# Altium schematic symbol library CAMERON.SchLib: 60 symbols
Pins are listed as number, name and electrical type; pins without a type are passive.

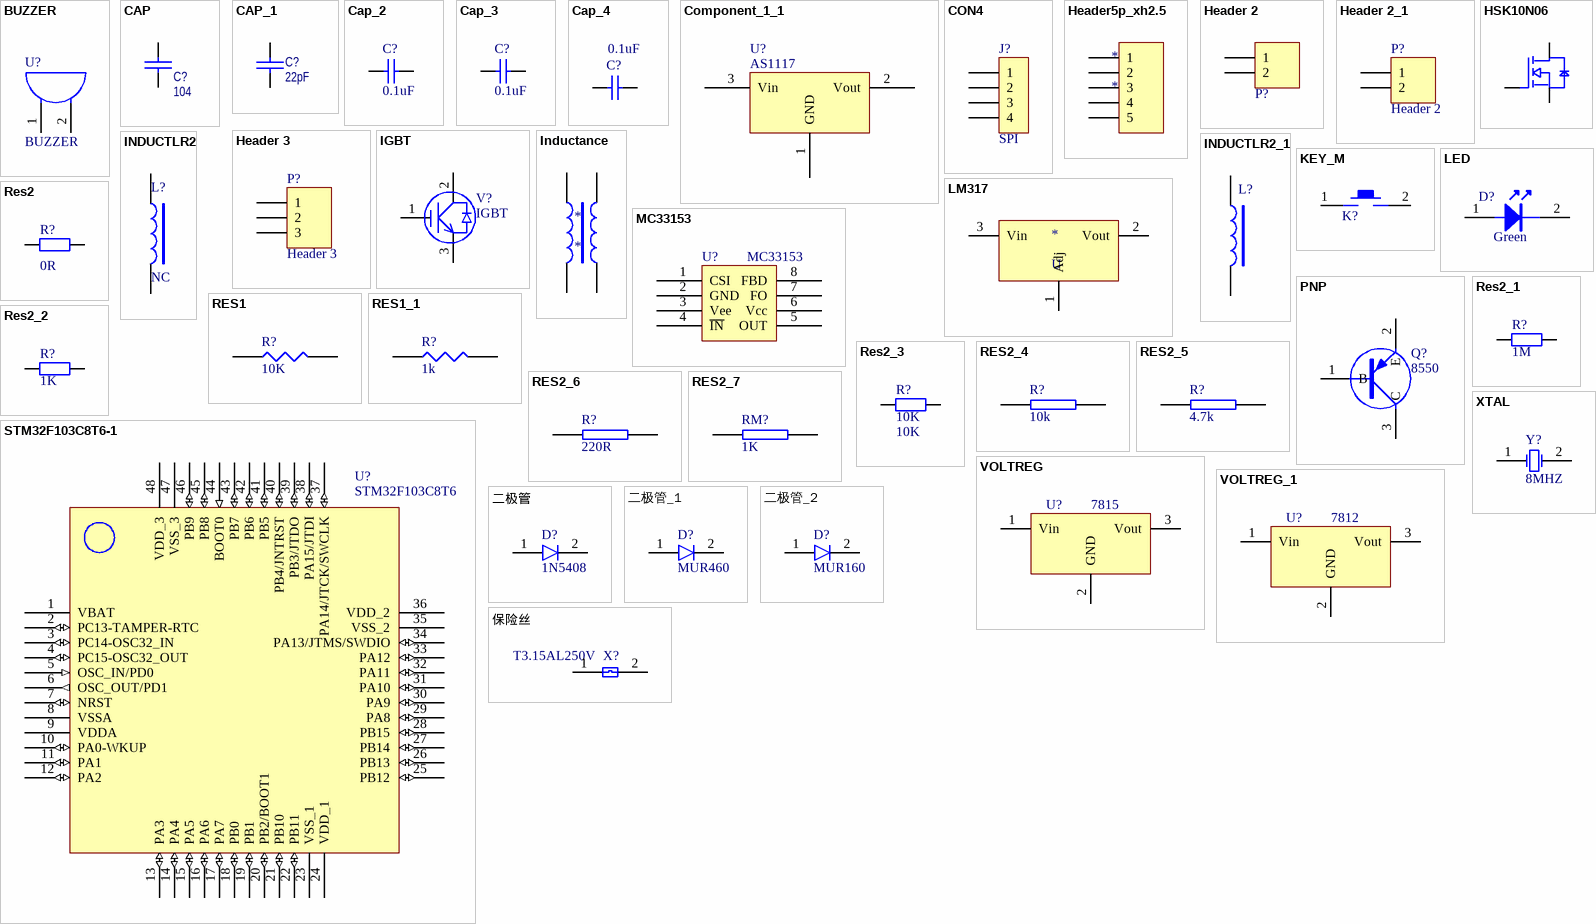
[diagram p0: symbols BUZZER to 保险丝]

## BUZZER
designator U?
footprint BUZZ-7.6/12 (工制单位)
pins: 1 A, 2 B
2 alternate drawings of the same symbol

## CAP
designator C?, comment 104
Capacitor
footprint 0805C
pins: 1, 2
2 alternate drawings of the same symbol

## CAP_1
designator C?, comment 22pF
Capacitor
footprint 0805C
pins: 1, 2
2 alternate drawings of the same symbol

## Cap_2
designator C?, comment value 0.1uF  (hidden comment: 104P)
Capacitor; Published: 8-Jun-2000; LatestRevisionDate: 17-Jul-2002; LatestRevisionNote: Re-released for DXP Platform.; PackageReference: RAD-0.3; Publisher: Altium Limited; PackageDescription: Radial Cap, Thru-Hole; 2 Leads; 0.3 in Pin Spacing
footprint 0805C
pins: 1, 2
2 alternate drawings of the same symbol

## Cap_3
designator C?, comment value 0.1uF  (hidden comment: Cap)
Capacitor; Published: 8-Jun-2000; LatestRevisionDate: 17-Jul-2002; LatestRevisionNote: Re-released for DXP Platform.; PackageReference: RAD-0.3; Publisher: Altium Limited; PackageDescription: Radial Cap, Thru-Hole; 2 Leads; 0.3 in Pin Spacing
footprint 0805C
pins: 1, 2
2 alternate drawings of the same symbol

## Cap_4
designator C?, comment value 0.1uF  (hidden comment: 470uF/35V)
Capacitor; Published: 8-Jun-2000; LatestRevisionDate: 17-Jul-2002; LatestRevisionNote: Re-released for DXP Platform.; PackageReference: RAD-0.3; Publisher: Altium Limited; PackageDescription: Radial Cap, Thru-Hole; 2 Leads; 0.3 in Pin Spacing
footprint 0805C
pins: 1, 2
2 alternate drawings of the same symbol

## Component_1_1
designator U?, comment AS1117
footprint 811733
footprint SOT_3
pins: 1 GND, 2 Vout, 3 Vin
2 alternate drawings of the same symbol

## CON4
designator J?, comment SPI
Connector
footprint XH-4P-2.5-4DIP (CON250P580W100D50S-4DIP)
pins: 1, 2, 3, 4
2 alternate drawings of the same symbol

## Header5p_xh2.5
designator *
pins: 1, 2, 3, 4, 5

## Header 2
designator P?, comment VREF_SEL  (value not drawn)
Header, 2-Pin; LatestRevisionDate: 17-Jul-2002; LatestRevisionNote: Re-released for DXP Platform.; Publisher: Altium Limited
footprint HDR1X2
footprint XH-2P-2.5
pins: 1, 2
2 alternate drawings of the same symbol

## Header 2_1
designator P?, comment Header 2
Header, 2-Pin; LatestRevisionDate: 17-Jul-2002; LatestRevisionNote: Re-released for DXP Platform.; Publisher: Altium Limited
footprint XH-2P-2.5
pins: 1, 2
2 alternate drawings of the same symbol

## Header 3
designator P?
Header, 3-Pin; LatestRevisionDate: 17-Jul-2002; LatestRevisionNote: Re-released for DXP Platform.; Publisher: Altium Limited
footprint XH-3P-2.5
footprint XH-3P-2.5-3DIP
pins: 1, 2, 3
2 alternate drawings of the same symbol

## HSK10N06
designator U?  (value not drawn)
Manufacturer: HUASHUO(华朔); Add into BOM: yes; Drain Source Voltage (Vdss): 60V; Continuous Drain Current (Id): 10A; Power Dissipation (Pd): 2W; Drain Source On Resistance (RDS(on)@Vgs,Id): 40mΩ@10V,10A; Gate Threshold Voltage (Vgs(th)@Id): 3V@250uA; Total Gate Charge (Qg@Vgs): 53nC@10V; Input Capacitance (Ciss@Vds): 3.427nF@25V; Reverse Transfer Capacitance (Crss@Vds): 226pF@25V; Symbol: HSK10N06; Device: HSK10N06; LCSC Part Name: 1个N沟道 耐压:60V 电流:10A; Supplier Part: C5128195; Manufacturer Part: HSK10N06; Supplier Footprint: SOT-89; JLCPCB Part Class: 扩展库; Datasheet: https://atta.szlcsc.com/upload/public/pdf/source/20220811/21CEAC6F9E2851314F5CEE4EFC219FCA.pdf; Supplier: LCSC; Convert to PCB: yes; Type: 1个N沟道; Operating Temperature: -55℃~+150℃@(Tj)
footprint SOT-89-3_L4.5-W2.5-P1.50-LS4.2-TR
pins: 1 G, 2 D, 3 S

## IGBT
designator V?
footprint TO-3P
pins: 1 B, 2 C, 3 E
2 alternate drawings of the same symbol

## Inductance
designator *
footprint L-1206C
pins: 1, 2, 3, 4

## INDUCTLR2
designator L?, comment NC
footprint L100
pins: 1, 2
2 alternate drawings of the same symbol

## INDUCTLR2_1
designator L?
footprint L-1206C
pins: 1, 2
2 alternate drawings of the same symbol

## KEY_M
designator K?  (value not drawn)
footprint KEY_M
footprint KEY_2
footprint Key2 (6*6(6.5*4.5))
pins: 1, 2
2 alternate drawings of the same symbol

## LED
designator D?, comment Green
footprint LED-0603 (20100324  贴片0603LED   LSB)
footprint LED-0805 (LED, SMD, 0805)
pins: 1, 2
2 alternate drawings of the same symbol

## LM317
designator *, comment U
footprint SOT_3
pins: 1 Adj, 2 Vout, 3 Vin

## MC33153
designator U?
footprint MC33153(SOIC-8)
footprint SOP-8
pins: 1 CSI, 2 GND, 3 Vee, 4 ~{IN}, 5 OUT, 6 Vcc, 7 FO, 8 FBD
2 alternate drawings of the same symbol

## PNP
designator Q?, comment 8550
footprint SOT-23 (SOT-23-3)
pins: 1 B, 2 E, 3 C
2 alternate drawings of the same symbol

## RES1
designator R?, comment 10K
footprint 0603
footprint 0805
pins: 1, 2
2 alternate drawings of the same symbol

## RES1_1
designator R?, comment 1k
footprint 0805
pins: 1, 2
2 alternate drawings of the same symbol

## Res2
designator R?, comment 0R
Resistor; Published: 8-Jun-2000; LatestRevisionDate: 17-Jul-2002; LatestRevisionNote: Re-released for DXP Platform.; PackageReference: AXIAL-0.4; Publisher: Altium Limited; PackageDescription: Axial Device, Thru-Hole; 2 Leads; 0.4 in Pin Spacing; Value: 0R
footprint 0805 (3.9mm,长)
footprint AXIAL-0.4
pins: 1, 2
2 alternate drawings of the same symbol

## Res2_1
designator R?, comment value 1M  (hidden comment: Res2)
Resistor; Published: 8-Jun-2000; LatestRevisionDate: 17-Jul-2002; LatestRevisionNote: Re-released for DXP Platform.; PackageReference: AXIAL-0.4; Publisher: Altium Limited; PackageDescription: Axial Device, Thru-Hole; 2 Leads; 0.4 in Pin Spacing
footprint 0805
pins: 1, 2
2 alternate drawings of the same symbol

## Res2_2
designator R?, comment value 1K  (hidden comment: Res2)
Resistor; Published: 8-Jun-2000; LatestRevisionDate: 17-Jul-2002; LatestRevisionNote: Re-released for DXP Platform.; PackageReference: AXIAL-0.4; Publisher: Altium Limited; PackageDescription: Axial Device, Thru-Hole; 2 Leads; 0.4 in Pin Spacing
footprint 0805
pins: 1, 2
2 alternate drawings of the same symbol

## Res2_3
designator R?, comment 10K
Resistor; Published: 8-Jun-2000; LatestRevisionDate: 17-Jul-2002; LatestRevisionNote: Re-released for DXP Platform.; PackageReference: AXIAL-0.4; Publisher: Altium Limited; PackageDescription: Axial Device, Thru-Hole; 2 Leads; 0.4 in Pin Spacing; Value: 10K
footprint 0805
pins: 1, 2
2 alternate drawings of the same symbol

## RES2_4
designator R?, comment 10k
footprint 0805
pins: 1, 2
2 alternate drawings of the same symbol

## RES2_5
designator R?, comment 4.7k
footprint 0805
pins: 1, 2
2 alternate drawings of the same symbol

## RES2_6
designator R?, comment 220R
footprint 0805
pins: 1, 2
2 alternate drawings of the same symbol

## RES2_7
designator RM?, comment 1K
footprint 0805
footprint 0805
pins: 1, 2
2 alternate drawings of the same symbol

## STM32F103C8T6-1
designator U?, comment STM32F103C8T6
footprint LQFP-48
pins: 1 VBAT (power), 2 PC13-TAMPER-RTC (io), 3 PC14-OSC32_IN (io), 4 PC15-OSC32_OUT (io), 5 OSC_IN/PD0 (in), 6 OSC_OUT/PD1 (out), 7 NRST (io), 8 VSSA (power), 9 VDDA (power), 10 PA0-WKUP (io), 11 PA1 (io), 12 PA2 (io), 13 PA3 (io), 14 PA4 (io), 15 PA5 (io), 16 PA6 (io), 17 PA7 (io), 18 PB0 (io), 19 PB1 (io), 20 PB2/BOOT1 (io), 21 PB10 (io), 22 PB11 (io), 23 VSS_1 (power), 24 VDD_1 (power), 25 PB12 (io), 26 PB13 (io), 27 PB14 (io), 28 PB15 (io), 29 PA8 (io), 30 PA9 (io), 31 PA10 (io), 32 PA11 (io), 33 PA12 (io), 34 PA13/JTMS/SWDIO (io), 35 VSS_2 (power), 36 VDD_2 (power), 37 PA14/JTCK/SWCLK (io), 38 PA15/JTDI (io), 39 PB3/JTDO (io), 40 PB4/JNTRST (io), 41 PB5 (io), 42 PB6 (io), 43 PB7 (io), 44 BOOT0 (in), 45 PB8 (io), 46 PB9 (io), 47 VSS_3 (power), 48 VDD_3 (power)
2 alternate drawings of the same symbol

## VOLTREG
designator U?, comment 7815
footprint TO220H
footprint TO-126（带散热器）小
pins: 1 Vin, 2 GND, 3 Vout
2 alternate drawings of the same symbol

## VOLTREG_1
designator U?, comment 7812
footprint TO220H
footprint TO-126（带散热器）小
pins: 1 Vin, 2 GND, 3 Vout
2 alternate drawings of the same symbol

## XTAL
designator Y?, comment 8MHZ
Crystal Oscillator; Published: *; LatestRevisionDate: *; LatestRevisionNote: *; PackageReference: *; Publisher: *
footprint XTAL_24M
footprint XTAL2
pins: 1 OSC1, 2 OSC2
2 alternate drawings of the same symbol

## 二极管
designator D?, comment 1N5408
footprint 二极管（1N5404）18MM
footprint 贴片二极管
footprint 二极管（小10mm）
footprint DO-201AD
pins: 1, 2
2 alternate drawings of the same symbol

## 二极管_1
designator D?, comment MUR460
footprint 二极管（1N5404）18MM
footprint 贴片二极管
footprint 二极管（小10mm）
footprint DO-201AD
pins: 1, 2
2 alternate drawings of the same symbol

## 二极管_2
designator D?, comment MUR160
footprint 二极管（大10mm）
footprint 贴片二极管
footprint DO-41
footprint DO-41
pins: 1, 2
2 alternate drawings of the same symbol

## 保险丝
designator X?, comment T3.15AL250V
footprint 保险管座
footprint FUSE (保险管座)
pins: 1, 2
2 alternate drawings of the same symbol

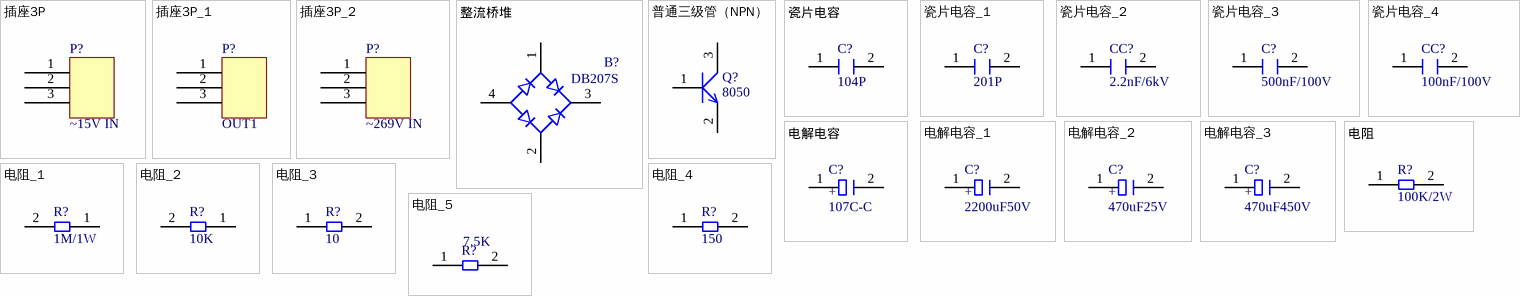
[diagram p1: symbols 插座3P to 电阻_5]

## 插座3P
designator P?, comment ~15V IN
footprint 低压电源插座3P（4mm）
footprint 大插座3P（2.54mm）
footprint 低压电源插座3P（4mm）
footprint 低压电源插座大3P（4mm）
footprint SIP-4-4.0
pins: 1, 2, 3
2 alternate drawings of the same symbol

## 插座3P_1
designator P?, comment OUT1
footprint 低压电源插座3P（4mm）
footprint 大插座3P（2.54mm）
footprint 低压电源插座3P（4mm）
footprint 低压电源插座大3P（4mm）
footprint VH3.96-3Pin
pins: 1, 2, 3
2 alternate drawings of the same symbol

## 插座3P_2
designator P?, comment ~269V IN
footprint 低压电源插座3P（4mm）
footprint 大插座3P（2.54mm）
footprint 低压电源插座3P（4mm）
footprint 低压电源插座大3P（4mm）
footprint VH3.96-3Pin
pins: 1, 2, 3
2 alternate drawings of the same symbol

## 整流桥堆
designator B?, comment DB207S
footprint 贴片整流桥堆
footprint DBS
pins: 1, 2, 3, 4
2 alternate drawings of the same symbol

## 普通三级管（NPN）
designator Q?, comment 8050
footprint SOT23-3
footprint SOT-23 - S8550 (s8550,s8050)
pins: 1 B, 2 E, 3 C
2 alternate drawings of the same symbol

## 瓷片电容
designator C?, comment 104P
footprint 0805C
footprint 涤纶电容（5MM）
pins: 1, 2
2 alternate drawings of the same symbol

## 瓷片电容_1
designator C?, comment 201P
footprint 0805C
footprint 涤纶电容（5MM）
pins: 1, 2
2 alternate drawings of the same symbol

## 瓷片电容_2
designator CC?, comment 2.2nF/6kV
footprint 高压涤纶电容（15mm）
footprint 涤纶电容（5MM）
footprint C104P (涤纶电容)
pins: 1, 2
2 alternate drawings of the same symbol

## 瓷片电容_3
designator C?, comment 500nF/100V
footprint 高压涤纶电容（15mm）
footprint 涤纶电容（5MM）
footprint C104P (涤纶电容)
pins: 1, 2
2 alternate drawings of the same symbol

## 瓷片电容_4
designator CC?, comment 100nF/100V
footprint 高压涤纶电容（15mm）
footprint 涤纶电容（5MM）
footprint C104P (涤纶电容)
pins: 1, 2
2 alternate drawings of the same symbol

## 电解电容
designator C?, comment 107C-C
footprint 贴片钽电容6032-28（C）
footprint 电解电容（12mm）
footprint 电解电容（30mm）
footprint CAP-TANTALUM-C (Tantalum Capacitor Case C, SMD)
pins: 1, 2
2 alternate drawings of the same symbol
text: +

## 电解电容_1
designator C?, comment 2200uF50V
footprint RB7.6-15
footprint 电解电容（12mm）
footprint 电解电容（30mm）
pins: 1, 2
2 alternate drawings of the same symbol
text: +

## 电解电容_2
designator C?, comment 470uF25V
footprint 贴片钽电容6032-28（C）
footprint CD10
footprint 电解电容（30mm）
pins: 1, 2
2 alternate drawings of the same symbol
text: +

## 电解电容_3
designator C?, comment 470uF450V
footprint 电解电容（35mm）
footprint 电解电容（12mm）
footprint 电解电容（30mm）
footprint EC-10-35
pins: 1, 2
2 alternate drawings of the same symbol
text: +

## 电阻
designator R?, comment 100K/2W
footprint 普通电阻（15MM）1W
footprint 普通电阻（10mm）
footprint AXIAL-0.8
pins: 1, 2
2 alternate drawings of the same symbol

## 电阻_1
designator R?, comment 1M/1W
footprint 普通电阻（15MM）1W
footprint 普通电阻（10mm）
footprint AXIAL0.7
pins: 1, 2
2 alternate drawings of the same symbol

## 电阻_2
designator R?, comment 10K
footprint 贴片电阻0805
footprint 普通电阻（10mm）
footprint AXIAL0.7
footprint 0805
pins: 1, 2
2 alternate drawings of the same symbol

## 电阻_3
designator R?, comment 10
footprint 1206
footprint 普通电阻（10mm）
pins: 1, 2
2 alternate drawings of the same symbol

## 电阻_4
designator R?, comment 150
footprint 1206
footprint 普通电阻（10mm）
pins: 1, 2
2 alternate drawings of the same symbol

## 电阻_5
designator R?, comment 7.5K
footprint 0805
footprint 普通电阻（10mm）
pins: 1, 2
2 alternate drawings of the same symbol